# Altium schematic symbol library general.SchLib: 42 symbols
Pins are listed as number, name and electrical type; pins without a type are passive.

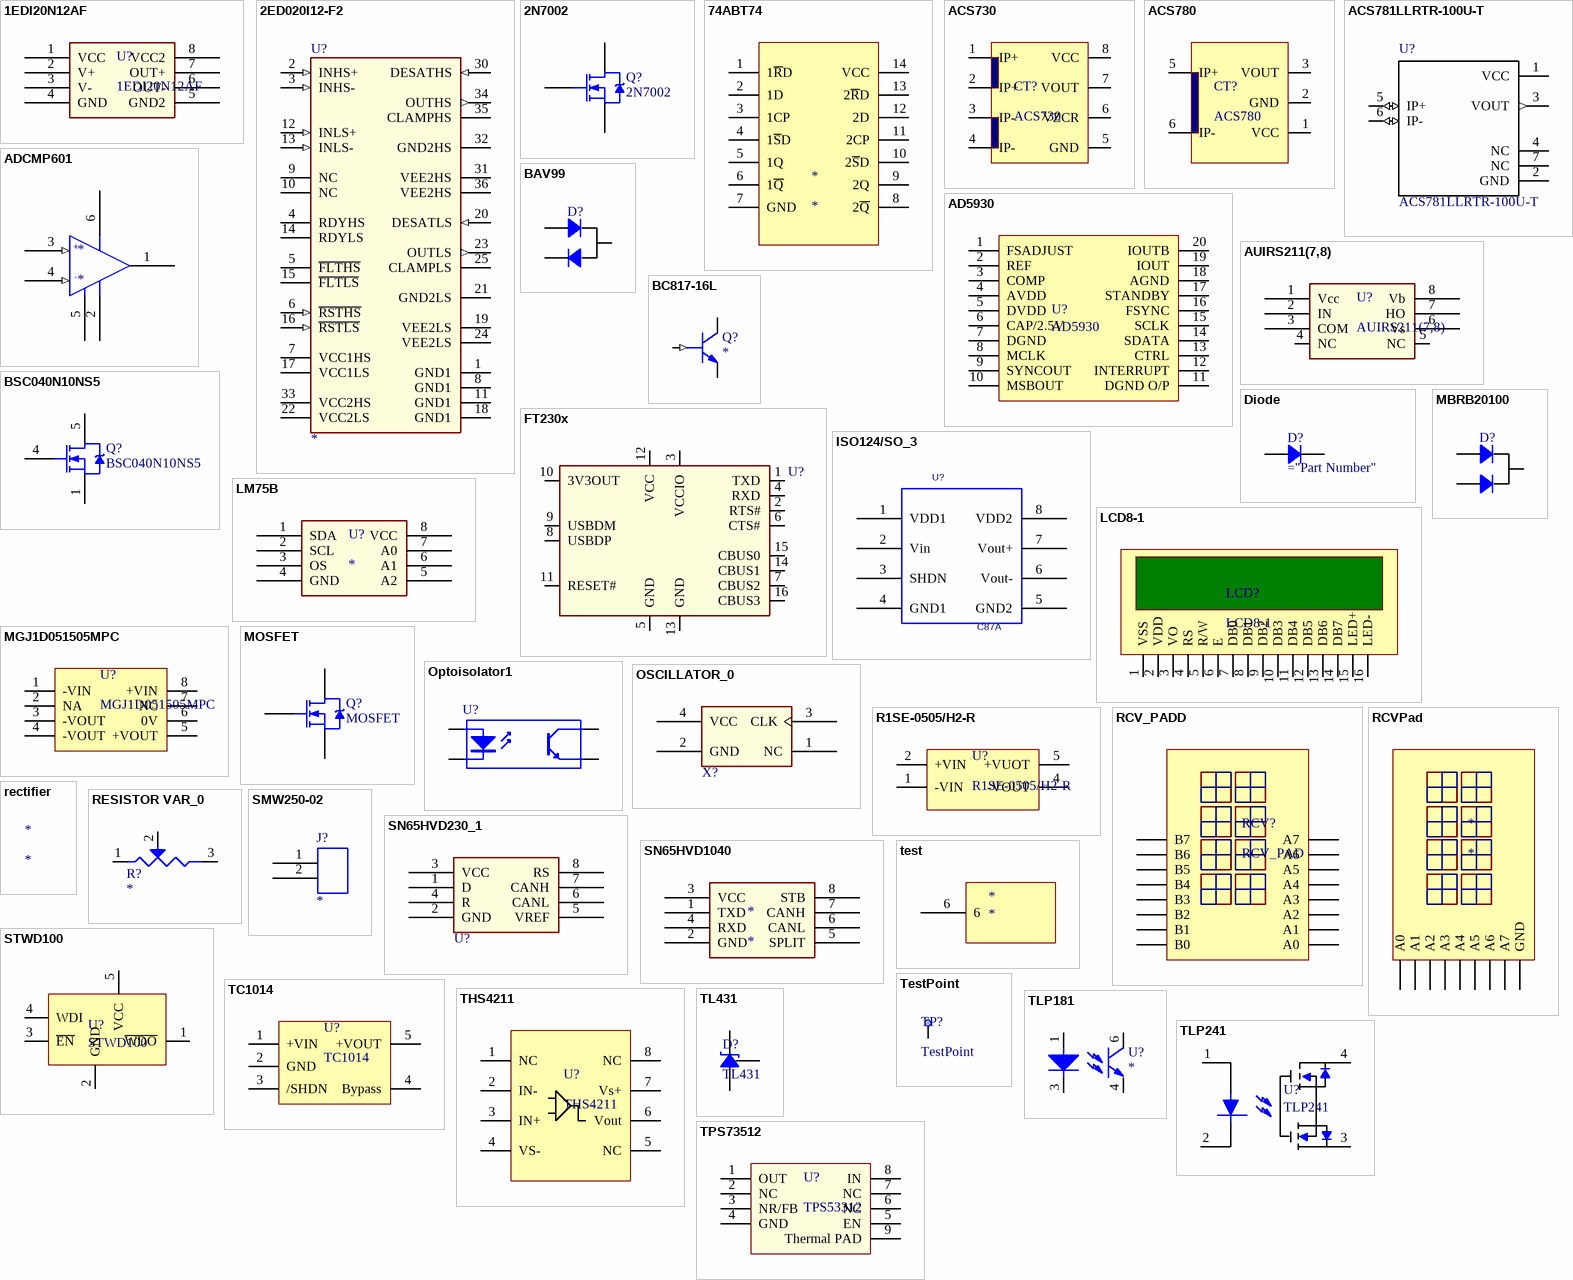
[diagram p0: symbols 1EDI20N12AF to TPS73512]

## 1EDI20N12AF
designator U?
Manufacturer: Infineon; Part Number: 1EDI20N12AF
footprint PG-DSO-8 (SOP, 8-Leads, Body 5,0x4,0mm (max), Pitch 1,27mm, IPC Medium Density)
pins: 1 VCC (power), 2 V+, 3 V-, 4 GND, 5 GND2, 6 OUT-, 7 OUT+, 8 VCC2 (power)

## 2ED020I12-F2
designator U?
footprint PG-DSO-36-58
pins: 1 GND1 (power), 2 INHS+ (in), 3 INHS- (in), 4 RDYHS (oc), 5 ~{FLTHS} (oc), 6 ~{RSTHS} (in), 7 VCC1HS (power), 8 GND1 (power), 9 NC, 10 NC, 11 GND1 (power), 12 INLS+ (in), 13 INLS- (in), 14 RDYLS (oc), 15 ~{FLTLS} (oc), 16 ~{RSTLS} (in), 17 VCC1LS (power), 18 GND1 (power), 19 VEE2LS (power), 20 DESATLS (in), 21 GND2LS (power), 22 VCC2LS (power), 23 OUTLS (out), 24 VEE2LS (power), 25 CLAMPLS, 30 DESATHS (in), 31 VEE2HS (power), 32 GND2HS (power), 33 VCC2HS (power), 34 OUTHS (out), 35 CLAMPHS, 36 VEE2HS (power)

## 2N7002
designator Q?
N-Channel Power MOSFET; Note: Pin 2 is electrically connected to pin 4.; Published: 8-Jun-2000; LatestRevisionDate: 17-Jul-2002; LatestRevisionNote: Re-released for DXP Platform.; DatasheetVersion: PD-9.814; PackageVersion: Feb-1997; PackageReference: TO-220AB; Publisher: Altium Limited; PackageDescription: TO, Thru-Hole, Vertical, Heatsink Mounted; 3 In-Line Leads; Pitch 2.54 mm; ComponentLink1Description: Manufacturer Link; ComponentLink1URL: http://www.irf.com/
footprint TO-220AB (TO, Thru-Hole, Vertical, Heatsink Mounted; 3 In-Line Leads; Pitch 2.54 mm)
simulation model IRF1010 (Spice Subcircuit)
pins: 1 G, 2 D, 3 S

## 74ABT74
designator *
pins: 1 1~{R}D, 2 1D, 3 1CP, 4 1~{S}D, 5 1Q, 6 1~{Q}, 7 GND, 8 2~{Q}, 9 2Q, 10 2~{S}D, 11 2CP, 12 2D, 13 2~{R}D, 14 VCC

## ACS730
designator CT?
Manufacturer: Allegro; ModelNumber: ACS730
footprint PG-DSO-8 (SOP, 8-Leads, Body 5,0x4,0mm (max), Pitch 1,27mm, IPC Medium Density)
pins: 1 IP+, 2 IP+, 3 IP-, 4 IP-, 5 GND, 6 VZCR, 7 VOUT, 8 VCC

## ACS780
designator CT?
Manufacturer: Allegro; ModelNumber: ACS780
pins: 1 VCC, 2 GND, 3 VOUT, 5 IP+, 6 IP-

## ACS781LLRTR-100U-T
designator U?
Thermally Enhanced Smd Current Sensor Ic; Manufacturer: Allegro; MF: Allegro MicroSystems LLC; ModelNumber: ACS781; MP: ACS781LLRTR-100U-T; Availability: Unavailable; SnapEDA_Link: https://www.snapeda.com/parts/ACS781LLRTR-100U-T/Allegro%20MicroSystems%20LLC/view-part/?ref=snap; Package: PowerSMD-7 Allegro MicroSystems LLC; Price: None; Value: *
footprint ACS781LLRTR-100U-T
pins: 1 VCC (power), 2 GND (power), 3 VOUT (out), 4 NC (power), 5 IP+ (io), 6 IP- (io), 7 NC (power)

## AD5930
designator U?
pins: 1 FSADJUST, 2 REF, 3 COMP, 4 AVDD, 5 DVDD, 6 CAP/2.5V, 7 DGND, 8 MCLK, 9 SYNCOUT, 10 MSBOUT, 11 DGND O/P, 12 INTERRUPT, 13 CTRL, 14 SDATA, 15 SCLK, 16 FSYNC, 17 STANDBY, 18 AGND, 19 IOUT, 20 IOUTB

## ADCMP601
designator *
pins: 1 Q, 2 GND (power), 3 Vp (in), 4 Vn (in), 5 LE (power), 6 VCC (power)
text: +; -

## AUIRS211(7,8)
designator U?
Manufacturer: Infineon; Part Number: AUIRS2117S
footprint SOIC127P600X175-8N (SOIC, 8-Leads, Body 4.90x3.90mm, Pitch 1.27mm, IPC Medium Density)
pins: 1 Vcc (power), 2 IN, 3 COM, 4 NC, 5 NC, 6 Vs, 7 HO, 8 Vb (power)

## BAV99
designator D?
Diode
pins: 1, 2, 3

## BC817-16L
designator Q?
footprint SOT95P245X110-3N (SOT23, 3-Leads, Body 2.90x2.45mm, Pitch 0.95mm, IPC Medium Density)
pins: 1 BASE (in), 2 EMITTER, 3 COLLECTOR

## BSC040N10NS5
designator Q?
N-Channel Power MOSFET; Note: Pin 2 is electrically connected to pin 4.; Published: 8-Jun-2000; LatestRevisionDate: 17-Jul-2002; LatestRevisionNote: Re-released for DXP Platform.; DatasheetVersion: PD-9.814; PackageVersion: Feb-1997; PackageReference: TO-220AB; Publisher: Altium Limited; PackageDescription: TO, Thru-Hole, Vertical, Heatsink Mounted; 3 In-Line Leads; Pitch 2.54 mm; ComponentLink1Description: Manufacturer Link; ComponentLink1URL: http://www.irf.com/
footprint BSC040N10NS5
simulation model IRF1010 (Spice Subcircuit)
pins: 1 S, 4 G, 5 D

## Diode
designator D?
Rectifier Diode
pins: 1, 2

## FT230x
designator U?
footprint SOP64P600X178-16N (SOP, 16-Leads, Body 4.90x3.89mm, Pitch 0.635mm, IPC Medium Density)
pins: 1 TXD, 2 RTS#, 3 VCCIO, 4 RXD, 5 GND, 6 CTS#, 7 CBUS2, 8 USBDP, 9 USBDM, 10 3V3OUT, 11 RESET#, 12 VCC, 13 GND, 14 CBUS1, 15 CBUS0, 16 CBUS3

## ISO124/SO_3
designator U?, comment C87A
OriginalSymbolOrigin: (0,0)
footprint SSO-8
pins: 1 VDD1, 2 Vin, 3 SHDN, 4 GND1, 5 GND2, 6 Vout-, 7 Vout+, 8 VDD2

## LCD8-1
designator LCD?
pins: 1 VSS, 2 VDD, 3 VO, 4 RS, 5 R/W, 6 E, 7 DB0, 8 DB1, 9 DB2, 10 DB3, 11 DB4, 12 DB5, 13 DB6, 14 DB7, 15 LED+, 16 LED-

## LM75B
designator U?
footprint SON50P300X50-8N (SON, 8-Leads, Body 2.00x3.00mm, Pitch 0.50mm, IPC Medium Density)
pins: 1 SDA (power), 2 SCL, 3 OS, 4 GND, 5 A2, 6 A1, 7 A0, 8 VCC (power)

## MBRB20100
designator D?
Diode
footprint D2PAK254P1524X470-3N (D2-PAK, 3-Pads, Body 7.60x8.36mm (max), IPC Medium Density)
pins: 1, 3, 4

## MGJ1D051505MPC
designator U?
Manufacturer: Murata; Part Number: MGJ1D051505MPC
footprint MGJ1D (Murata Power)
pins: 1 -VIN, 2 NA, 3 -VOUT, 4 -VOUT, 5 +VOUT, 6 0V, 7 NC, 8 +VIN

## MOSFET
designator Q?
N-Channel Power MOSFET; Note: Pin 2 is electrically connected to pin 4.; Published: 8-Jun-2000; LatestRevisionDate: 17-Jul-2002; LatestRevisionNote: Re-released for DXP Platform.; DatasheetVersion: PD-9.814; PackageVersion: Feb-1997; PackageReference: TO-220AB; Publisher: Altium Limited; PackageDescription: TO, Thru-Hole, Vertical, Heatsink Mounted; 3 In-Line Leads; Pitch 2.54 mm; ComponentLink1Description: Manufacturer Link; ComponentLink1URL: http://www.irf.com/
simulation model IRF1010 (Spice Subcircuit)
footprint TO-252AA(DPAK) (D-PAK, 3-Pads, Body 6.20x6.72mm (max), IPC Medium Density)
pins: 1 G, 2 D, 3 S

## Optoisolator1
designator U?
4-Pin Phototransistor Optocoupler; Published: 24-Mar-1999; LatestRevisionDate: 04-Mar-2005; LatestRevisionNote: Sch pins 3 & 4 Swapped.; DatasheetVersion: Nov-2003; PackageReference: DIP-4; Publisher: Altium Limited
footprint DIP-4 (DIP; 4 Leads; Row Spacing 7.62 mm; Pitch 2.54 mm)
pins: 1 A "Anode", 2 K "Cathode", 3 E "Emitter", 4 C "Collector"

## OSCILLATOR_0
designator X?
footprint SCO-53 (OSC, 4-Leads, Body 5.00x3.20mm, Pitch 2.54mm)
pins: 1 NC, 2 GND, 3 CLK, 4 VCC

## R1SE-0505/H2-R
designator U?
footprint R1SE-0505-SO8 (SO, 8-Leads, Body 12.75x10.70mm, Pitch 2.54mm, IPC Medium Density)
pins: 1 -VIN, 2 +VIN, 4 -VOUT, 5 +VUOT, 8 NC

## RCV_PADD
designator RCV?, comment RCV_PAD
pins: 1 A0, 2 A1, 3 A2, 4 A3, 5 A4, 6 A5, 7 A6, 8 A7, 9 B0, 10 B1, 11 B2, 12 B3, 13 B4, 14 B5, 15 B6, 16 B7

## RCVPad
designator *
pins: 1 A0, 2 A1, 3 A2, 4 A3, 5 A4, 6 A5, 7 A6, 8 A7, 9 GND

## rectifier
designator *

## RESISTOR VAR_0
designator R?
OriginalSymbolOrigin: (0,0)
pins: 1 A, 2 WIPER, 3 B

## SMW250-02
designator J?
OriginalSymbolOrigin: (0,0)
footprint SMW250-02P
pins: 1, 2

## SN65HVD230_1
designator U?
pins: 1 D, 2 GND, 3 VCC (power), 4 R, 5 VREF, 6 CANL, 7 CANH, 8 RS (power)

## SN65HVD1040
designator *
pins: 1 TXD, 2 GND, 3 VCC (power), 4 RXD, 5 SPLIT, 6 CANL, 7 CANH, 8 STB (power)

## STWD100
designator U?
pins: 1 ~{WDO}, 2 GND, 3 ~{EN}, 4 WDI, 5 VCC

## TC1014
designator U?
Manufacturer: MICROCHIP; Part Number: TC1014-3.3VCT713
footprint SOT95P245X110-5N (SOT23, 5-Leads, Body 2.90x2.45mm, Pitch 0.95mm, IPC Medium Density)
pins: 1 +VIN, 2 GND, 3 /SHDN, 4 Bypass, 5 +VOUT

## test
designator *
pins: 6

## TestPoint
designator TP?
pins: 1 TP

## THS4211
designator U?
pins: 1 NC, 2 IN-, 3 IN+, 4 VS-, 5 NC, 6 Vout, 7 Vs+, 8 NC

## TL431
designator D?
Shunt regulator
footprint SOT95P245X110-3N (SOT23, 3-Leads, Body 2.90x2.45mm, Pitch 0.95mm, IPC Medium Density)
pins: 1 Cathode, 2 Ref, 3 Anode

## TLP181
designator U?
OriginalSymbolOrigin: (0,0)
pins: 1 ANODE, 3 CATHODE, 4 EMITTER, 6 COLLECTOR

## TLP241
designator U?
pins: 1 ANODE, 2 CATHODE, 3 Drain, 4 Drain

## TPS73512
designator U?, comment TPS53312
pins: 1 OUT, 2 NC, 3 NR/FB, 4 GND, 5 EN, 6 NC, 7 NC, 8 IN, 9 Thermal PAD

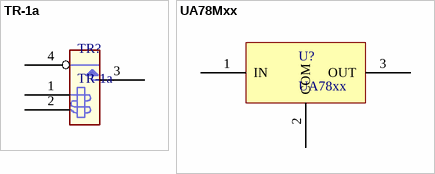
[diagram p1: symbols TR-1a to UA78Mxx]

## TR-1a
designator TR?
footprint TR1A
pins: 1 COIL1, 2 COIL2, 3 NO, 4 COMMON

## UA78Mxx
designator U?, comment UA78xx
footprint SOT230P700X180-4N (SOT223, 4-Leads, Body 6.50x7.00mm (avg), Pitch 2.30mm, IPC Medium Density)
pins: 1 IN, 2 COM, 3 OUT